# EAGLE library part ATSAMR21-G18A (library Atmel)
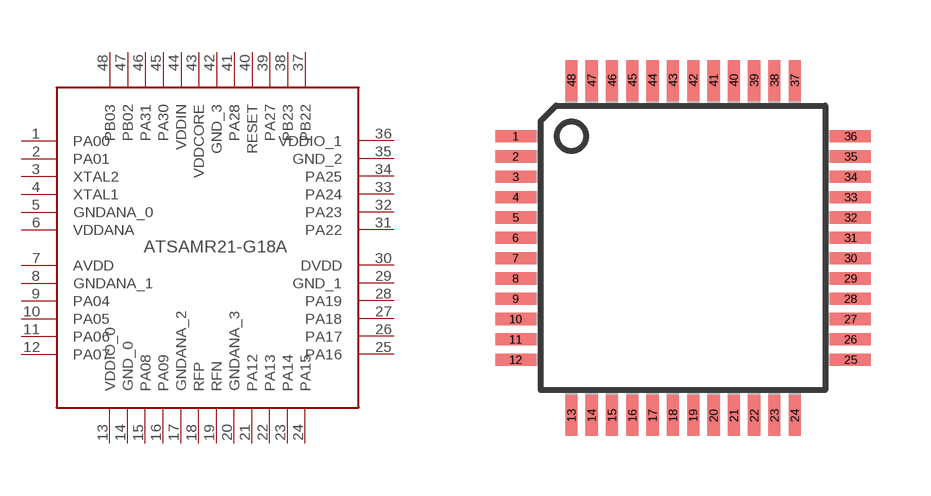
[diagram p347: symbol with the pads of TQFP48; footprint TQFP48]

Designator prefix -

## ATSAMR21-G18A (MF: Microchip Technology / Atmel; MPN: ATSAMR21-G18A)  [TQFP48]
1  PA00
2  PA01
3  XTAL2
4  XTAL1
5  GNDANA_0
6  VDDANA
7  AVDD
8  GNDANA_1
9  PA04
10  PA05
11  PA06
12  PA07
13  VDDIO_0
14  GND_0
15  PA08
16  PA09
17  GNDANA_2
18  RFP
19  RFN
20  GNDANA_3
21  PA12
22  PA13
23  PA14
24  PA15
25  PA16
26  PA17
27  PA18
28  PA19
29  GND_1
30  DVDD
31  PA22
32  PA23
33  PA24
34  PA25
35  GND_2
36  VDDIO_1
37  PB22
38  PB23
39  PA27
40  RESET
41  PA28
42  GND_3
43  VDDCORE
44  VDDIN
45  PA30
46  PA31
47  PB02
48  PB03

## Footprint TQFP48 (pad centres in mm)
Thin Plasic Quad Flat Package
smd 1.016 x 0.305: 1 -4.191,2.794; 2 -4.191,2.286; 3 -4.191,1.778; 4 -4.191,1.27; 5 -4.191,0.762; 6 -4.191,0.254; 7 -4.191,-0.254; 8 -4.191,-0.762; 9 -4.191,-1.27; 10 -4.191,-1.778; 11 -4.191,-2.286; 12 -4.191,-2.794; 25 4.191,-2.794; 26 4.191,-2.286; 27 4.191,-1.778; 28 4.191,-1.27; 29 4.191,-0.762; 30 4.191,-0.254; 31 4.191,0.254; 32 4.191,0.762; 33 4.191,1.27; 34 4.191,1.778; 35 4.191,2.286; 36 4.191,2.794
smd 0.305 x 1.016: 13 -2.794,-4.191; 14 -2.286,-4.191; 15 -1.778,-4.191; 16 -1.27,-4.191; 17 -0.762,-4.191; 18 -0.254,-4.191; 19 0.254,-4.191; 20 0.762,-4.191; 21 1.27,-4.191; 22 1.778,-4.191; 23 2.286,-4.191; 24 2.794,-4.191; 37 2.794,4.191; 38 2.286,4.191; 39 1.778,4.191; 40 1.27,4.191; 41 0.762,4.191; 42 0.254,4.191; 43 -0.254,4.191; 44 -0.762,4.191; 45 -1.27,4.191; 46 -1.778,4.191; 47 -2.286,4.191; 48 -2.794,4.191